# EAGLE library part PCM1804 (library Egna komponenter)
FULL DIFFERENTIAL ANALOG INPUT 24-BIT, 192-kHz STEREO A/D CONVERTER Auto generated by make-symbol-device-package-bsdl.ulp Rev. 29 Source: http://focus.ti.com/lit/ds/symlink/pcm1804.pdf
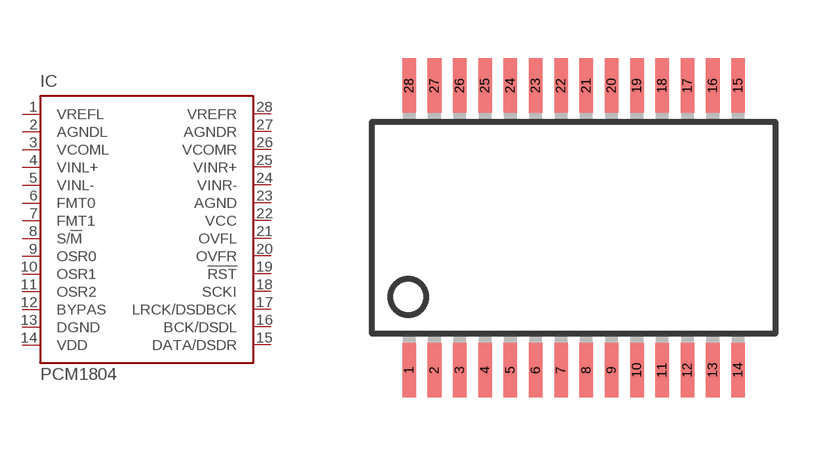
[diagram p1: symbol with the pads of DB_R-PDSO-G28; footprint DB_R-PDSO-G28]

Designator prefix IC

## PCM1804 (MF: TEXAS INSTRUMENT CONNECTORS; MPN: PCM1804DB; OC_FARNELL: 1197425; OC_NEWARK: 36K7583)  [DB_R-PDSO-G28]
1  VREFL  pwr
2  AGNDL  pwr
3  VCOML  pwr
4  VINL+  in
5  VINL-  in
6  FMT0  in
7  FMT1  in
8  S/!M  in
9  OSR0  in
10  OSR1  in
11  OSR2  in
12  BYPAS  in
13  DGND  pwr
14  VDD  pwr
15  DATA/DSDR  out
16  BCK/DSDL
17  LRCK/DSDBCK
18  SCKI  in
19  !RST  in
20  OVFR  out
21  OVFL  out
22  VCC  pwr
23  AGND  pwr
24  VINR-  in
25  VINR+  in
26  VCOMR  pwr
27  AGNDR  pwr
28  VREFR  pwr

## Footprint DB_R-PDSO-G28 (pad centres in mm)
DB (R-PDSO-G28) Source: http://focus.ti.com/lit/ds/symlink/ads1210.pdf
smd 0.348 x 1.397: 1 -4.225,-3.656; 2 -3.575,-3.656; 3 -2.925,-3.656; 4 -2.275,-3.656; 5 -1.625,-3.656; 6 -0.975,-3.656; 7 -0.325,-3.656; 8 0.325,-3.656; 9 0.975,-3.656; 10 1.625,-3.656; 11 2.275,-3.656; 12 2.925,-3.656; 13 3.575,-3.656; 14 4.225,-3.656; 15 4.225,3.656; 16 3.575,3.656; 17 2.925,3.656; 18 2.275,3.656; 19 1.625,3.656; 20 0.975,3.656; 21 0.325,3.656; 22 -0.325,3.656; 23 -0.975,3.656; 24 -1.625,3.656; 25 -2.275,3.656; 26 -2.925,3.656; 27 -3.575,3.656; 28 -4.225,3.656